# Altium footprint library MCU.PcbLib: 63 footprints (part 4 of 4)
Each footprint in its own frame and in the unit in brackets; x right, y up, seen from the top. Pads: shape width x height; smd on the part's side, far side on the other; paste and mask are expansions set on the pad; w line width, h text height; cw(c..) or ccw(c..) is an arc to the next point about the centre after c.
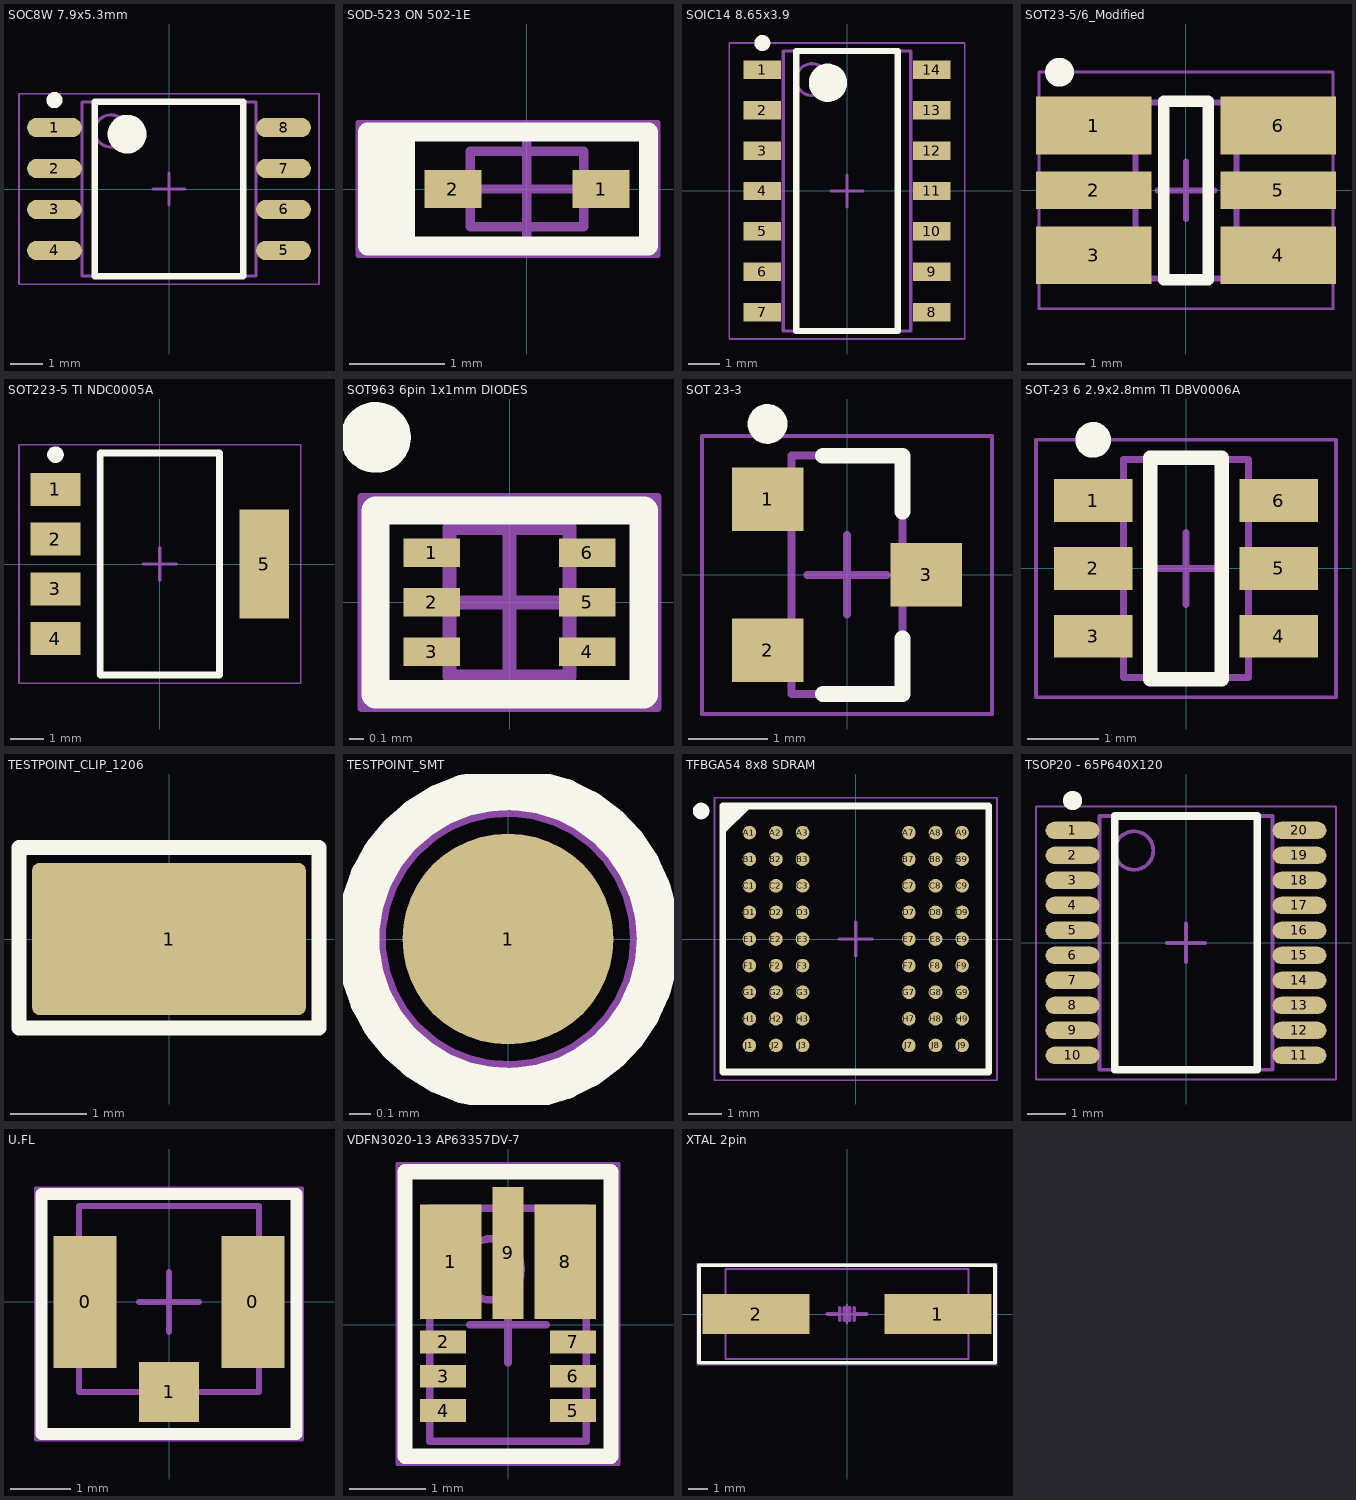
[diagram p3: the footprints below, top view; thin cyan lines are the x and y axes]

## SOC8W 7.9x5.3mm [mm] "SOP, 8-Leads, Body 5.28x5.28mm, Pitch 1.27mm, IPC Medium Density"
height 2.16
pads (8):
  oval 1.7x0.6 smd: 1(-3.55,1.905) 2(-3.55,0.635) 3(-3.55,-0.635) 4(-3.55,-1.905) 5(3.55,-1.905) 6(3.55,-0.635) 7(3.55,0.635) 8(3.55,1.905)
Top Overlay:
  circle w0.6: c-1.3,1.7 r0.3
  circle w0.25: c-3.55,2.755 r0.125
  lines w0.2: -2.3,-2.7 2.3,-2.7 2.3,2.7 -2.3,2.7 -2.3,-2.7
Top Assembly:
  circle w0.1: c-1.8,1.8 r0.5
  lines w0.1: -2.7,-2.7 2.7,-2.7 2.7,2.7 -2.7,2.7 -2.7,-2.7
Top Courtyard:
  lines w0.05: -4.65,-2.95 4.65,-2.95 4.65,2.95 -4.65,2.95 -4.65,-2.95
  lines w0.1: -0.5,0 0.5,0 ; 0,-0.5 0,0.5
3D body "SOC8W 7.9x5.3mm .step": height 2.16, standoff 0, extent -3.95,-2.7 3.95,2.7

## SOD-523 ON 502-1E [mm] "SODFL, 2-Leads, Body 0.75x1.60mm, IPC Medium Density"
height 0.7
pads (2):
  rect 0.6x0.4 smd: 1(0.78,0) 2(-0.78,0)
Top Overlay:
  lines w0.2: -1.48,-0.6 -1.68,-0.6 -1.68,0.6 -1.48,0.6 ; -1.48,-0.6 -1.48,0.6 ; -1.48,-0.6 -1.28,-0.6 ; -1.48,0.6 -1.28,0.6 ; -1.28,-0.6 -1.28,0.6 ; -1.28,-0.6 1.28,-0.6 1.28,0.6 -1.28,0.6
Mechanical 13:
  lines w0.1: -0.6,-0.4 -0.6,0.4 0.6,0.4 0.6,-0.4 -0.6,-0.4
Mechanical 15:
  lines w0.05: -1.78,-0.7 -1.78,0.7 1.38,0.7 1.38,-0.7 -1.78,-0.7
  lines w0.1: -0.5,0 0.5,0 ; 0,-0.5 0,0.5
3D body "SOD-523 ON 502-1E.step": height 0.7, standoff 0, extent -0.8,-0.4 0.8,0.4

## SOIC14 8.65x3.9 [mm] "SOIC, 14-Leads, Body 8.65x3.90mm, Pitch 1.27mm, IPC Medium Density"
height 1.75
pads (14):
  rect 1.18x0.58 smd: 1(-2.66,3.81) 2(-2.66,2.54) 3(-2.66,1.27) 4(-2.66,0) 5(-2.66,-1.27) 6(-2.66,-2.54) 7(-2.66,-3.81) 8(2.66,-3.81) 9(2.66,-2.54) 10(2.66,-1.27) 11(2.66,0) 12(2.66,1.27) 13(2.66,2.54) 14(2.66,3.81)
Top Overlay:
  circle w0.25: c-2.66,4.65 r0.125
  circle w0.6: c-0.6,3.4 r0.3
  lines w0.2: -1.6,-4.4 -1.6,4.4 1.6,4.4 1.6,-4.4 -1.6,-4.4
Mechanical 13:
  circle w0.1: c-1.1,3.5 r0.5
  lines w0.1: -2,-4.4 -2,4.4 2,4.4 2,-4.4 -2,-4.4
Mechanical 15:
  lines w0.05: -3.7,-4.65 -3.7,4.65 3.7,4.65 3.7,-4.65 -3.7,-4.65
  lines w0.1: -0.5,0 0.5,0 ; 0,-0.5 0,0.5
3D body "SOIC14 8.65x3.9.step": height 1.75, standoff 0, extent -3,-4.4 3,4.4

## SOT23-5/6_Modified [mm] "SOT23, 6-Leads, Body 2.90x2.80mm, Pitch 0.95mm, IPC Low Density"
height 1.45
pads (6):
  rect 2x1 smd: 1(-1.6,1.125) 3(-1.6,-1.125) 4(1.6,-1.125) 6(1.6,1.125)
  rect 2x0.65 smd: 2(-1.6,0) 5(1.6,0)
Top Overlay:
  circle w0.25: c-2.193,2.05 r0.125
  lines w0.2: -0.385,-1.55 0.389,-1.55 0.389,1.55 -0.385,1.55 -0.385,-1.55
Top Assembly:
  lines w0.1: -0.875,-1.525 -0.875,1.525 0.875,1.525 0.875,-1.525 -0.875,-1.525
Top Courtyard:
  lines w0.05: -2.55,-2.05 -2.55,2.05 2.55,2.05 2.55,-2.05 -2.55,-2.05
  lines w0.1: -0.5,0 0.5,0 ; 0,-0.5 0,0.5
3D body "TLV9061SIDBVR.STEP": height 1.45, standoff 0, extent -1.4,-1.45 1.4,1.45

## SOT223-5 TI NDC0005A [mm] "SOT223, 5-Leads, Body 6.50x7.00mm (avg), Pitch 1.50mm, IPC Medium Density"
height 1.8
pads (5):
  rect 1.5x1 smd: 1(-3.15,2.25) 2(-3.15,0.75) 3(-3.15,-0.75) 4(-3.15,-2.25)
  rect 1.5x3.3 smd: 5(3.15,0)
Top Overlay:
  circle w0.25: c-3.15,3.3 r0.125
  lines w0.2: -1.8,-3.35 1.8,-3.35 1.8,3.35 -1.8,3.35 -1.8,-3.35
Mechanical 13:
  lines w0.1: -1.855,-3.35 1.855,-3.35 1.855,3.35 -1.855,3.35 -1.855,-3.35
Mechanical 15:
  lines w0.05: -4.25,-3.6 4.25,-3.6 4.25,3.6 -4.25,3.6 -4.25,-3.6
  lines w0.1: -0.5,0 0.5,0 ; 0,-0.5 0,0.5
3D body "SOT223-5 TI NDC0005A.step": height 1.8, standoff 0, extent -3.5,-3.35 3.5,3.35

## SOT963 6pin 1x1mm DIODES [mm] "SOTFL, 6-Leads, Body 1.00x1.00mm, Pitch 0.35mm, IPC Medium Density"
height 0.5
pads (6):
  rect 0.4x0.2 smd: 1(-0.55,0.35) 2(-0.55,0) 3(-0.55,-0.35) 4(0.55,-0.35) 5(0.55,0) 6(0.55,0.35)
Top Overlay:
  circle w0.25: c-0.948,1.167 r0.125
  lines w0.2: -0.95,-0.65 0.95,-0.65 0.95,0.65 -0.95,0.65 -0.95,-0.65
Mechanical 13:
  lines w0.1: -0.425,-0.525 0.425,-0.525 0.425,0.525 -0.425,0.525 -0.425,-0.525
Mechanical 15:
  lines w0.05: -1.05,-0.75 1.05,-0.75 1.05,0.75 -1.05,0.75 -1.05,-0.75
  lines w0.1: -0.5,0 0.5,0 ; 0,-0.5 0,0.5
3D body "SOT963 6pin 1x1mm DIODES .step": height 0.5, standoff 0, extent -0.5,-0.523 0.5,0.523

## SOT 23-3 [mm]
height 1.15
pads (3):
  rect 0.9x0.8 smd: 1(-1,0.95) 2(-1,-0.95) 3(1,0)
Top Overlay:
  circle w0.25: c-1,1.9 r0.125
  lines w0.2: -0.3,-1.5 0.7,-1.5 0.7,-0.8 ; -0.3,1.5 0.7,1.5 0.7,0.8
Mechanical 13:
  lines w0.1: -0.7,-1.5 0.7,-1.5 0.7,1.5 -0.7,1.5 -0.7,-1.5
Mechanical 15:
  lines w0.05: -1.825,-1.75 1.825,-1.75 1.825,1.75 -1.825,1.75 -1.825,-1.75
  lines w0.1: -0.5,0 0.5,0 ; 0,-0.5 0,0.5
3D body "SOT 23-3 .step": height 1.15, standoff 0, extent -1.2,-1.5 1.2,1.5

## SOT-23 6 2.9x2.8mm TI DBV0006A [mm] "SOT23, 6-Leads, Body 2.90x2.80mm, Pitch 0.95mm, IPC Medium Density"
height 1.45
pads (6):
  rect 1.1x0.6 smd: 1(-1.3,0.95) 2(-1.3,0) 3(-1.3,-0.95) 4(1.3,-0.95) 5(1.3,0) 6(1.3,0.95)
Top Overlay:
  circle w0.25: c-1.3,1.8 r0.125
  lines w0.2: -0.5,-1.55 -0.5,1.55 0.5,1.55 0.5,-1.55 -0.5,-1.55
Mechanical 13:
  lines w0.1: -0.875,-1.525 0.875,-1.525 0.875,1.525 -0.875,1.525 -0.875,-1.525
Mechanical 15:
  lines w0.05: -2.1,-1.8 2.1,-1.8 2.1,1.8 -2.1,1.8 -2.1,-1.8
  lines w0.1: -0.5,0 0.5,0 ; 0,-0.5 0,0.5
3D body "SOT-23 6 2.9x2.8mm TI DBV0006A.step": height 1.45, standoff 0, extent -1.5,-1.525 1.5,1.525

## TESTPOINT_CLIP_1206 [mm]
pads (1):
  rrect10% 3.6x2 smd paste-1111: 1(0,0)
Top Overlay:
  lines w0.2: -1.971,-1.171 -1.971,1.201 1.971,1.201 1.971,-1.171 -1.971,-1.171
Mechanical 13:
  circle w0.05: c0,0 r0.604
3D body "RCWCTE--3DModel-STEP-56544.STEP": height 2.01, standoff 0, extent -1.6,-0.8 1.6,0.8

## TESTPOINT_SMT [mm] "testpoint smt"
pads (1):
  round 1 smd paste-1111: 1(0,0)
Top Overlay:
  circle w0.2: c0,0 r0.71
Mechanical 13:
  circle w0.05: c0,0 r0.604

## TFBGA54 8x8 SDRAM [mm] "BGA, 54-Leads, Body 8.00x8.00mmx1.20mm, Pitch 0.80mm"
height 1.2
pads (54):
  round 0.41 smd: A1(-3.2,3.2) A2(-2.4,3.2) A3(-1.6,3.2) A7(1.6,3.2) A8(2.4,3.2) A9(3.2,3.2) B1(-3.2,2.4) B2(-2.4,2.4) B3(-1.6,2.4) B7(1.6,2.4) B8(2.4,2.4) B9(3.2,2.4) C1(-3.2,1.6) C2(-2.4,1.6) C3(-1.6,1.6) C7(1.6,1.6) C8(2.4,1.6) C9(3.2,1.6) D1(-3.2,0.8) D2(-2.4,0.8) D3(-1.6,0.8) D7(1.6,0.8) D8(2.4,0.8) D9(3.2,0.8) E1(-3.2,0) E2(-2.4,0) E3(-1.6,0) E7(1.6,0) E8(2.4,0) E9(3.2,0) F1(-3.2,-0.8) F2(-2.4,-0.8) F3(-1.6,-0.8) F7(1.6,-0.8) F8(2.4,-0.8) F9(3.2,-0.8) G1(-3.2,-1.6) G2(-2.4,-1.6) G3(-1.6,-1.6) G7(1.6,-1.6) G8(2.4,-1.6) G9(3.2,-1.6) H1(-3.2,-2.4) H2(-2.4,-2.4) H3(-1.6,-2.4) H7(1.6,-2.4) H8(2.4,-2.4) H9(3.2,-2.4) J1(-3.2,-3.2) J2(-2.4,-3.2) J3(-1.6,-3.2) J7(1.6,-3.2) J8(2.4,-3.2) J9(3.2,-3.2)
Top Overlay:
  circle w0.25: c-4.65,3.85 r0.125
  region: -3.256,4 -4,3.256 -4,4
  lines w0.2: -4,3.256 -3.256,4 ; -4,-4 -4,4 4,4 4,-4 -4,-4
Top Assembly:
  lines w0.1: -4,-4 -4,4 4,4 4,-4 -4,-4
Top Courtyard:
  lines w0.05: -4.25,-4.25 -4.25,4.25 4.25,4.25 4.25,-4.25 -4.25,-4.25
  lines w0.1: -0.5,0 0.5,0 ; 0,-0.5 0,0.5
3D body "TFBGA54 8x8 SDRAM.step": height 1.2, standoff 0, extent -4,-4 4,4

## TSOP20 - 65P640X120 [mm] "TSOP, 20-Leads, Body 6.50x4.40mm, Pitch 0.65mm, IPC Medium Density"
height 1.2
pads (20):
  oval 1.4x0.45 smd: 1(-2.95,2.925) 2(-2.95,2.275) 3(-2.95,1.625) 4(-2.95,0.975) 5(-2.95,0.325) 6(-2.95,-0.325) 7(-2.95,-0.975) 8(-2.95,-1.625) 9(-2.95,-2.275) 10(-2.95,-2.925) 11(2.95,-2.925) 12(2.95,-2.275) 13(2.95,-1.625) 14(2.95,-0.975) 15(2.95,-0.325) 16(2.95,0.325) 17(2.95,0.975) 18(2.95,1.625) 19(2.95,2.275) 20(2.95,2.925)
Top Overlay:
  circle w0.25: c-2.95,3.7 r0.125
  lines w0.2: -1.85,-3.3 -1.85,3.3 1.85,3.3 1.85,-3.3 -1.85,-3.3
Mechanical 13:
  circle w0.1: c-1.35,2.4 r0.5
  lines w0.1: -2.25,-3.3 -2.25,3.3 2.25,3.3 2.25,-3.3 -2.25,-3.3
Mechanical 15:
  lines w0.05: -3.9,-3.55 -3.9,3.55 3.9,3.55 3.9,-3.55 -3.9,-3.55
  lines w0.1: -0.5,0 0.5,0 ; 0,-0.5 0,0.5
3D body "TSOP20 - 65P640X120.step": height 1.2, standoff 0, extent -3.2,-3.3 3.2,3.3

## U.FL [mm] "SOT23, 6-Leads, Body 2.90x2.80mm, Pitch 0.95mm, IPC Low Density"
height 1.45
pads (3):
  rect 1.05x2.2 smd: 0(-1.4,0) 0(1.4,0)
  rect 1x1 smd: 1(0,-1.5)
Top Overlay:
  lines w0.2: -2.125,-2.2 2.125,-2.2 2.125,1.8 -2.125,1.8 -2.125,-2.2
Top Assembly:
  lines w0.1: -1.5,-1.5 -1.5,1.6 1.5,1.6 1.5,-1.5 -1.5,-1.5
Top Courtyard:
  lines w0.05: -2.225,-2.3 -2.225,1.9 2.225,1.9 2.225,-2.3 -2.225,-2.3
  lines w0.1: -0.5,0 0.5,0 ; 0,-0.5 0,0.5
3D body "U.FL-R-SMT-1.stp": height 1.26, standoff 0.01, extent -1.5,-1.5 1.5,1.6

## VDFN3020-13 AP63357DV-7 [mm] "SON, 12-Leads, Body 3.00x2.00mm, Pitch 0.45mm, IPC Medium Density"
height 0.85
pads (9):
  rect 0.8x1.5 smd: 1(-0.75,0.825) 8(0.75,0.825)
  rect 0.6x0.3 smd: 2(-0.85,-0.225) 3(-0.85,-0.675) 4(-0.85,-1.125) 5(0.85,-1.125) 6(0.85,-0.675) 7(0.85,-0.225)
  rect 0.4x1.73 smd: 9(0,0.94)
Top Overlay:
  lines w0.2: -1.35,-1.725 -1.35,2.005 1.35,2.005 1.35,-1.725 -1.35,-1.725
Mechanical 13:
  circle w0.1: c-0.225,0.725 r0.4
  lines w0.1: -1.025,-1.525 1.025,-1.525 1.025,1.525 -1.025,1.525 -1.025,-1.525
Mechanical 15:
  lines w0.05: -1.45,-1.825 1.45,-1.825 1.45,2.105 -1.45,2.105 -1.45,-1.825
  lines w0.1: -0.5,0 0.5,0 ; 0,-0.5 0,0.5
3D body "VDFN3020-13 AP63357DV-7.step": height 0.85, standoff 0, extent -1.026,-1.525 1.026,1.525

## XTAL 2pin [mm]
pads (2):
  rect 5.6x2.1 smd: 1(4.75,0) 2(-4.75,0)
Top Overlay:
  lines w0.2: -7.75,-2.549 -7.75,2.549 7.75,2.549 7.75,-2.549 -7.75,-2.549
Mechanical 1:
  lines w0.2: -1.016,0 -0.381,0 ; -0.381,-0.318 -0.381,0.318 ; 0.381,-0.318 0.381,0.318 ; 0.381,0 1.016,0 ; -0.127,-0.318 0.127,-0.318 0.127,0.318 -0.127,0.318 -0.127,-0.318
Mechanical 13:
  lines w0.1: -6.35,-2.349 -6.35,2.349 6.35,2.349 6.35,-2.349 -6.35,-2.349
Mechanical 15:
  lines w0.05: -7.85,-2.649 -7.85,2.649 7.85,2.649 7.85,-2.649 -7.85,-2.649
  lines w0.1: -0.5,0 0.5,0 ; 0,-0.5 0,0.5
3D body "ABLS.STEP": height 4.18, standoff 0.01, extent -6.35,-2.349 6.35,2.349